# Altium footprint library Potentiometers THD.PcbLib: 21 footprints (part 2 of 2)
Each footprint in its own frame and in the unit in brackets; x right, y up, seen from the top. Pads: shape width x height; smd on the part's side, far side on the other; paste and mask are expansions set on the pad; w line width, h text height; cw(c..) or ccw(c..) is an arc to the next point about the centre after c.
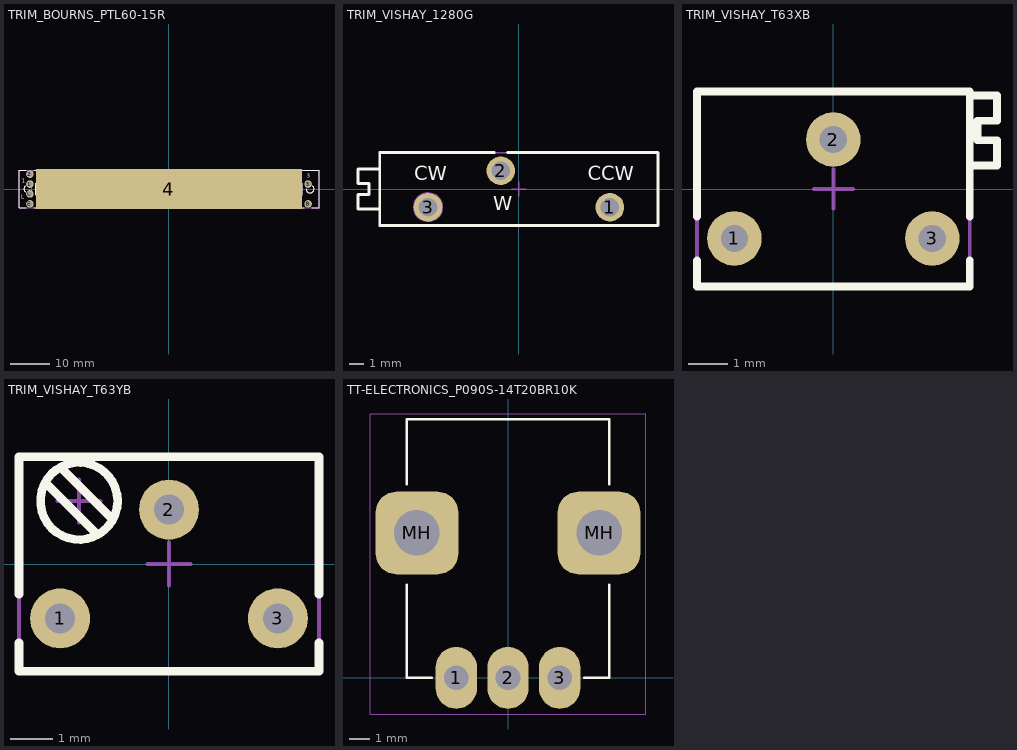
[diagram p1: the footprints below, top view; thin cyan lines are the x and y axes]

## TRIM_BOURNS_PTL60-15R [mm] "Slide Potentiometer with Red LED, 60mm Travel Length, 15mm Lever Length, Serie PTL"
height 22.5
pads (7):
  round 1.9 hole 1.2: 1(-35,1.25) 2(-35,3.75) 3(35,1.25) B(35,-3.75) E(-35,-3.75) L(-35,-1.25)
  rect 67x10 smd paste-5 mask-5: 4(0,0)
Top Overlay:
  lines w0.2: -36.227,-0.687 cw(c-35.5,0) -36.227,0.687 ; -35.907,-4.75 -37.75,-4.75 -37.75,4.75 -35.907,4.75 ; -34.093,-4.75 34.093,-4.75 ; -34.093,4.75 37.75,4.75 37.75,-4.75 35.907,-4.75 ; 28.4,-1.075 28.4,1.075 ; 31.6,-1.075 31.6,1.075 ; 34.5,-0.004 ccw(c35.5,0) 36.227,0.687 ; -33.5,-1.4 -33.5,1.4 33.5,1.4 33.5,-1.4 -33.5,-1.4 ; 26.7,-1.075 33.3,-1.075 33.3,1.075 26.7,1.075 26.7,-1.075
  text "2" at -33.425,3.225 h1
  text "E" at -33.425,-4.275 h1
  text "B" at 32.675,-4.05 h1
  text "3" at 34.7,2.875 h1
  text "L" at -37.175,-2.425 h1
  text "1" at -37.05,1.55 h1
Mechanical 8:
  lines w0.1: -35.5,-3.75 -35,-3.75 ; -35.5,-1.25 -35,-1.25 ; -35.5,1.25 -35,1.25 ; -35.5,3.75 -35,3.75 ; -35,-4.25 -35,-3.75 ; -35,-3.25 -35,-3.75 ; -35,-1.75 -35,-1.25 ; -35,-0.75 -35,-1.25 ; -35,0.75 -35,1.25 ; -35,1.75 -35,1.25 ; -35,3.25 -35,3.75 ; -35,4.25 -35,3.75 ; -34.5,-3.75 -35,-3.75 ; -34.5,-1.25 -35,-1.25 ; -34.5,1.25 -35,1.25 ; -34.5,3.75 -35,3.75 ; 34.5,-3.75 35,-3.75 ; 34.5,1.25 35,1.25 ; 35,-4.25 35,-3.75 ; 35,-3.25 35,-3.75 ; 35,0.75 35,1.25 ; 35,1.75 35,1.25 ; 35.5,-3.75 35,-3.75 ; 35.5,1.25 35,1.25 ; 0,0 -0.5,0 0,0 ; 0,0 0,0.5 0,0 ; 0,0 0,-0.5 0,0 ; 0,0 0.5,0 0,0
Mechanical 14:
  circle w0.1: c-35.5,0 r1
  circle w0.1: c35.5,0 r1
  lines w0.1: 28.4,-1.075 28.4,1.075 ; 31.6,-1.075 31.6,1.075 ; -37.75,-4.75 -37.75,4.75 37.75,4.75 37.75,-4.75 -37.75,-4.75 ; -33.5,-1.4 33.5,-1.4 33.5,1.4 -33.5,1.4 -33.5,-1.4 ; 26.7,-1.075 33.3,-1.075 33.3,1.075 26.7,1.075 26.7,-1.075
  text "2" at -33.425,3.225 h1
  text "E" at -33.425,-4.275 h1
  text "B" at 32.675,-4.05 h1
  text "3" at 34.7,2.875 h1
  text "L" at -37.175,-2.425 h1
  text "1" at -37.05,1.55 h1
3D body "TRIM_BOURNS_PTL60-15R.stp": height 22.5, standoff -3.5, extent -37.75,-4.75 37.75,4.75

## TRIM_VISHAY_1280G [mm] "26 Turn Bulk Metal® Foil Technology Ultra High Precision Trimming Potentiometers, Body 19.05x4.83x7.11mm, Accutrim 1280G Series"
height 7.11
pads (3):
  round 2 hole 1.3: 1(6.355,-1.27) 2(-1.265,1.27) 3(-6.345,-1.27)
Top Overlay:
  lines w0.2: -9.715,-1.395 -11.235,-1.395 -11.235,-0.38 -10.475,-0.38 -10.475,0.38 -11.235,0.38 -11.235,1.395 -9.715,1.395 ; -1.723,2.54 -9.715,2.54 -9.715,-2.54 9.715,-2.54 9.715,2.54 -0.807,2.54
  text "CCW" at 4.8,0.6 h1
  text "W" at -1.8,-1.5 h1
  text "CW" at -7.3,0.6 h1
Mechanical 8:
  circle w0.1: c-6.345,-1.27 r0.65
  circle w0.1: c-6.345,-1.27 r1
  lines w0.1: -6.845,-1.27 -6.345,-1.27 ; -6.345,-1.77 -6.345,-1.27 ; -6.345,-0.77 -6.345,-1.27 ; -5.845,-1.27 -6.345,-1.27 ; -1.765,1.27 -1.265,1.27 ; -1.265,0.77 -1.265,1.27 ; -1.265,1.77 -1.265,1.27 ; -0.765,1.27 -1.265,1.27 ; -0.5,0 0,0 ; 0,-0.5 0,0 ; 0,0.5 0,0 ; 0.5,0 0,0 ; 5.855,-1.27 6.355,-1.27 ; 6.355,-1.77 6.355,-1.27 ; 6.355,-0.77 6.355,-1.27 ; 6.855,-1.27 6.355,-1.27
Mechanical 14:
  lines w0.1: -9.715,-1.395 -11.235,-1.395 -11.235,-0.38 -10.475,-0.38 -10.475,0.38 -11.235,0.38 -11.235,1.395 -9.715,1.395 ; -9.715,-2.54 -9.715,2.54 9.715,2.54 9.715,-2.54 -9.715,-2.54
  text "CCW" at 4.8,0.6 h1
  text "W" at -1.8,-1.5 h1
  text "CW" at -7.3,0.6 h1
3D body "TRIM_VISHAY_1280G.stp": height 7.11, standoff -3.81, extent -11.235,-2.54 9.715,2.54

## TRIM_VISHAY_T63XB [mm] "Trimming Potentiometer VISHAY T63YB Series (Side Adjustment)"
height 7
pads (3):
  round 1.4 hole 0.7: 1(-2.54,-1.27) 2(0,1.27) 3(2.54,-1.27)
Top Overlay:
  lines w0.2: -3.5,-2.5 3.5,-2.5 ; -3.5,-2.5 -3.5,-1.835 ; -3.5,-0.705 -3.5,2.5 3.5,2.5 3.5,-0.705 ; 3.5,-2.5 3.5,-1.835 ; 3.5,0.6 4.2,0.6 4.2,1.25 3.7,1.25 3.7,1.75 4.2,1.75 4.2,2.4 3.5,2.4
Mechanical 8:
  lines w0.1: -3.04,-1.27 -2.54,-1.27 ; -2.54,-1.77 -2.54,-1.27 ; -2.54,-0.77 -2.54,-1.27 ; -2.04,-1.27 -2.54,-1.27 ; -0.5,0 0,0 ; -0.5,1.27 0,1.27 ; 0,-0.5 0,0 ; 0,0.5 0,0 ; 0,0.77 0,1.27 ; 0,1.77 0,1.27 ; 0.5,0 0,0 ; 0.5,1.27 0,1.27 ; 2.04,-1.27 2.54,-1.27 ; 2.54,-1.77 2.54,-1.27 ; 2.54,-0.77 2.54,-1.27 ; 3.04,-1.27 2.54,-1.27
Mechanical 14:
  lines w0.1: 3.5,0.6 4.2,0.6 4.2,1.25 3.7,1.25 3.7,1.75 4.2,1.75 4.2,2.4 3.5,2.4 ; -3.5,-2.5 3.5,-2.5 3.5,2.5 -3.5,2.5 -3.5,-2.5
3D body "TRIM_VISHAY_T63XB.stp": height 7, standoff -3.6, extent -3.5,-2.5 4.2,2.5

## TRIM_VISHAY_T63YB [mm] "Trimming Potentiometer VISHAY T63YB Series (Top Adjustment)"
height 7.7
pads (3):
  round 1.4 hole 0.7: 1(-2.54,-1.27) 2(0,1.27) 3(2.54,-1.27)
Top Overlay:
  circle w0.2: c-2.1,1.47 r0.9
  lines w0.2: -3.5,-2.5 3.5,-2.5 ; -3.5,-2.5 -3.5,-1.835 ; -3.5,-0.705 -3.5,2.5 3.5,2.5 3.5,-0.705 ; -2.888,1.905 -1.665,0.682 ; -2.535,2.258 -1.312,1.035 ; 3.5,-2.5 3.5,-1.835
Mechanical 8:
  lines w0.1: -3.04,-1.27 -2.54,-1.27 ; -2.6,1.47 -2.1,1.47 ; -2.54,-1.77 -2.54,-1.27 ; -2.54,-0.77 -2.54,-1.27 ; -2.1,0.97 -2.1,1.47 ; -2.1,1.97 -2.1,1.47 ; -2.04,-1.27 -2.54,-1.27 ; -1.6,1.47 -2.1,1.47 ; -0.5,0 0,0 ; -0.5,1.27 0,1.27 ; 0,-0.5 0,0 ; 0,0.5 0,0 ; 0,0.77 0,1.27 ; 0,1.77 0,1.27 ; 0.5,0 0,0 ; 0.5,1.27 0,1.27 ; 2.04,-1.27 2.54,-1.27 ; 2.54,-1.77 2.54,-1.27 ; 2.54,-0.77 2.54,-1.27 ; 3.04,-1.27 2.54,-1.27
Mechanical 14:
  circle w0.1: c-2.1,1.47 r0.9
  lines w0.1: -2.888,1.905 -1.665,0.682 ; -2.535,2.258 -1.312,1.035 ; -3.5,-2.5 3.5,-2.5 3.5,2.5 -3.5,2.5 -3.5,-2.5
3D body "TRIM_VISHAY_T63YB.stp": height 7.5, standoff -3.6, extent -3.4,-2.5 3.4,2.5

## TT-ELECTRONICS_P090S-14T20BR10K [mm] "POT 10K OHM 1/32W PLASTIC LINEAR"
pads (5):
  oval 2x3 hole 1.2 mask+0.05: 1(-2.5,0) 2(0,0) 3(2.5,0)
  rrect50% 4x4 hole 2.2 square mask+0.05: MH(-4.4,7) MH(4.4,7)
Top Overlay:
  lines w0.127: -4.9,4.5 -4.9,0 -3.7,0 ; -4.9,9.35 -4.9,12.5 4.9,12.5 4.9,9.35 ; 3.7,0 4.9,0 4.9,4.5
Mechanical 15:
  lines w0.05: -6.65,-1.75 -6.65,12.75 6.65,12.75 6.65,-1.75 -6.65,-1.75
3D body "P090S-14T20BR10K.stp": height 20.05, standoff -3.75, extent -5.696,-0.15 5.697,12.5